# EAGLE library part DAVINCI32U_NOISP (library TheMakerMCUs)
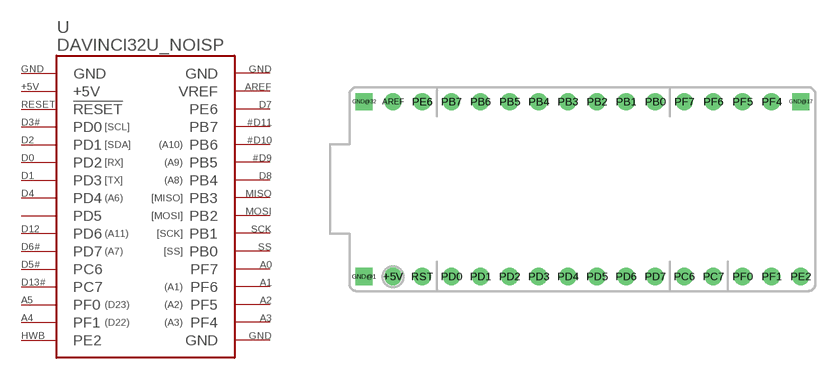
[diagram p2: symbol with the pads of DV32U_NOISP; footprint DV32U_NOISP]

Designator prefix -

## DAVINCI32U_NOISP  [DV32U_NOISP]
+5V  +5V
AREF  VREF
GND@1  GND
GND@17  GND
GND@32  GND
PB0  PB0
PB1  PB1
PB2  PB2
PB3  PB3
PB4  PB4
PB5  PB5
PB6  PB6
PB7  PB7
PC6  PC6
PC7  PC7
PD0  PD0
PD1  PD1
PD2  PD2
PD3  PD3
PD4  PD4
PD5  PD5
PD6  PD6
PD7  PD7
PE2  PE2
PE6  PE6
PF0  PF0
PF1  PF1
PF4  PF4
PF5  PF5
PF6  PF6
PF7  PF7
RST  !RESET

## Footprint DV32U_NOISP (pad centres in mm)
drill 0.85 pad 1.5 round: +5V -16.51,-7.62; AREF -16.51,7.62; PB0 6.35,7.62; PB1 3.81,7.62; PB2 1.27,7.62; PB3 -1.27,7.62; PB4 -3.81,7.62; PB5 -6.35,7.62; PB6 -8.89,7.62; PB7 -11.43,7.62; PC6 8.89,-7.62; PC7 11.43,-7.62; PD0 -11.43,-7.62; PD1 -8.89,-7.62; PD2 -6.35,-7.62; PD3 -3.81,-7.62; PD4 -1.27,-7.62; PD5 1.27,-7.62; PD6 3.81,-7.62; PD7 6.35,-7.62; PE2 19.05,-7.62; PE6 -13.97,7.62; PF0 13.97,-7.62; PF1 16.51,-7.62; PF4 16.51,7.62; PF5 13.97,7.62; PF6 11.43,7.62; PF7 8.89,7.62; RST -13.97,-7.62
drill 0.85 pad 1.5 square: GND@1 -19.05,-7.62; GND@17 19.05,7.62; GND@32 -19.05,7.62